# Altium schematic symbol library ADM2582EBRWZ.SchLib: 1 symbol
Pins are listed as number, name and electrical type; pins without a type are passive.

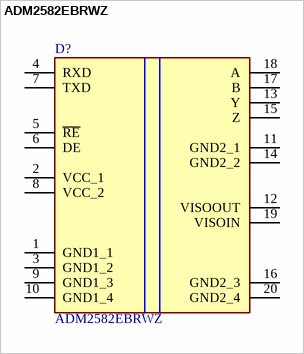
[diagram p0: symbol ADM2582EBRWZ]

## ADM2582EBRWZ
designator D?
Signal and Power Isolated RS-485 Transceiver; Manufacturer_Name: Analog Devices; Manufacturer_Part_Number: ADM2582EBRWZ-REEL7; Datasheet Link: https://www.analog.com/media/en/technical-documentation/data-sheets/adm2582e_2587e.pdf; Height: 2.65mm; Mouser Part Number: 584-ADM2582EBRWZR7; Mouser Price/Stock: https://www.mouser.co.uk/ProductDetail/Analog-Devices/ADM2582EBRWZ-REEL7?qs=BpaRKvA4VqGxJ391mv0mlQ%3D%3D; Arrow Part Number: ADM2582EBRWZ-REEL7; Arrow Price/Stock: https://www.arrow.com/en/products/adm2582ebrwz-reel7/analog-devices?utm_currency=USD&region=nac
footprint RW_20_ADI
pins: 1 GND1_1, 2 VCC_1, 3 GND1_2, 4 RXD, 5 ~{RE}, 6 DE, 7 TXD, 8 VCC_2, 9 GND1_3, 10 GND1_4, 11 GND2_1, 12 VISOOUT, 13 Y, 14 GND2_2, 15 Z, 16 GND2_3, 17 B, 18 A, 19 VISOIN, 20 GND2_4